# EAGLE library part MPT19 (library pluggable_terminal_blocks)
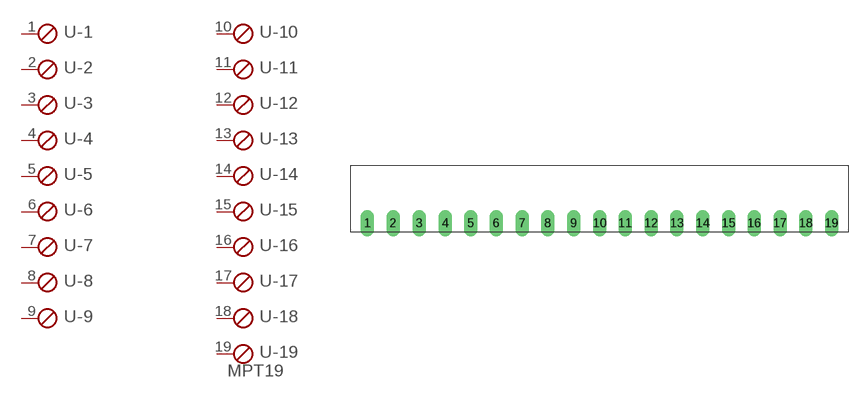
[diagram p12: symbol with the pads of 19POL35; footprint 19POL35]

Designator prefix -; gates -1=SKB -2=SKB -3=SKB -4=SKB -5=SKB -6=SKB -7=SKB -8=SKB -10=SKB -11=SKB -12=SKB -13=SKB -14=SKB -15=SKB -16=SKB -17=SKB -9=SKB -18=SKB -19=SKBV

## MPT19  [19POL35]
1  -1:1  pas
2  -2:1  pas
3  -3:1  pas
4  -4:1  pas
5  -5:1  pas
6  -6:1  pas
7  -7:1  pas
8  -8:1  pas
9  -9:1  pas
10  -10:1  pas
11  -11:1  pas
12  -12:1  pas
13  -13:1  pas
14  -14:1  pas
15  -15:1  pas
16  -16:1  pas
17  -17:1  pas
18  -18:1  pas
19  -19:1  pas

## Footprint 19POL35 (pad centres in mm)
drill 1.2 long: 1 -31.52,0; 2 -28.03,0; 3 -24.49,0; 4 -20.95,0; 5 -17.51,0; 6 -14.02,0; 7 -10.48,0; 8 -7.04,0; 9 -3.5,0; 10 0.04,0; 11 3.48,0; 12 7.02,0; 13 10.52,0; 14 14.02,0; 15 17.52,0; 16 21.02,0; 17 24.52,0; 18 28.02,0; 19 31.52,0